# Altium footprint library EVP-AF7B70.PcbLib: 1 footprints
Each footprint in its own frame and in the unit in brackets; x right, y up, seen from the top. Pads: shape width x height; smd on the part's side, far side on the other; paste and mask are expansions set on the pad; w line width, h text height; cw(c..) or ccw(c..) is an arc to the next point about the centre after c.
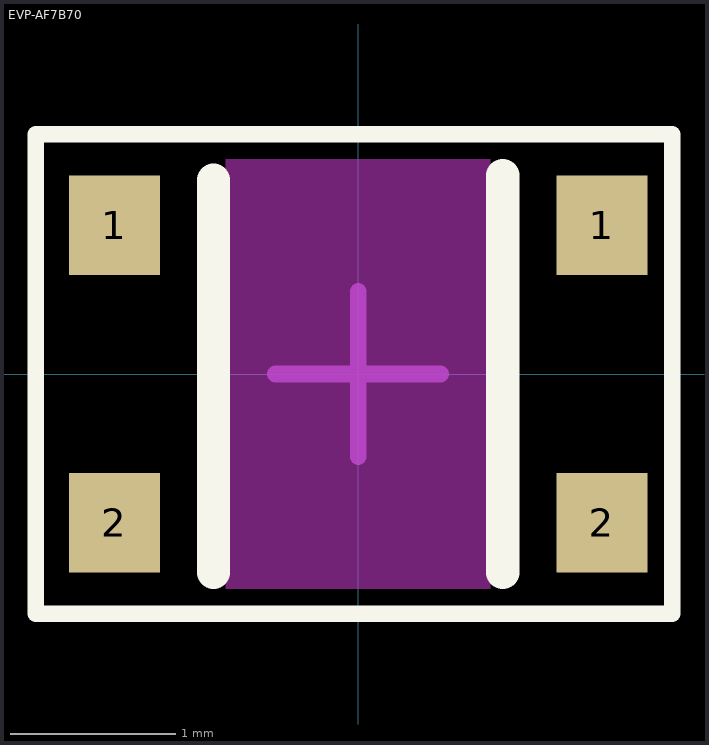
[diagram p0: the footprint, top view; thin cyan lines are the x and y axes]

## EVP-AF7B70 [mm] "EVP-AF7B70"
pads (4):
  rect 0.55x0.6 smd paste+0 mask+0.05: 1(-1.475,0.9) 1(1.475,0.9) 2(-1.475,-0.9) 2(1.475,-0.9)
Top Layer keep-out:
  region: -0.8,1.3 -0.8,-1.3 0.8,-1.3 0.8,1.3
Top Overlay:
  lines w0.1: -1.95,-1.45 1.9,-1.45 1.9,1.45 -1.95,1.45 -1.95,-1.45
  lines w0.2: -0.875,-1.2 -0.875,1.175 ; 0.875,-1.2 0.875,1.2
Top Assembly:
  lines w0.05: -1.95,-1.45 1.9,-1.45 1.9,1.45 -1.95,1.45 -1.95,-1.45
  text "'.Designator'" at -0.95,-0.175 h1
Mechanical 6:
  lines w0.1: -0.5,0 0.5,0 ; 0,-0.5 0,0.5
3D body "EVPAF-75-B70.STEP": height 0.7, standoff 0, extent -1.687,-1.3 1.713,1.3